# Altium footprint library ic_tqfp.PcbLib: 6 footprints
Each footprint in its own frame and in the unit in brackets; x right, y up, seen from the top. Pads: shape width x height; smd on the part's side, far side on the other; paste and mask are expansions set on the pad; w line width, h text height; cw(c..) or ccw(c..) is an arc to the next point about the centre after c.
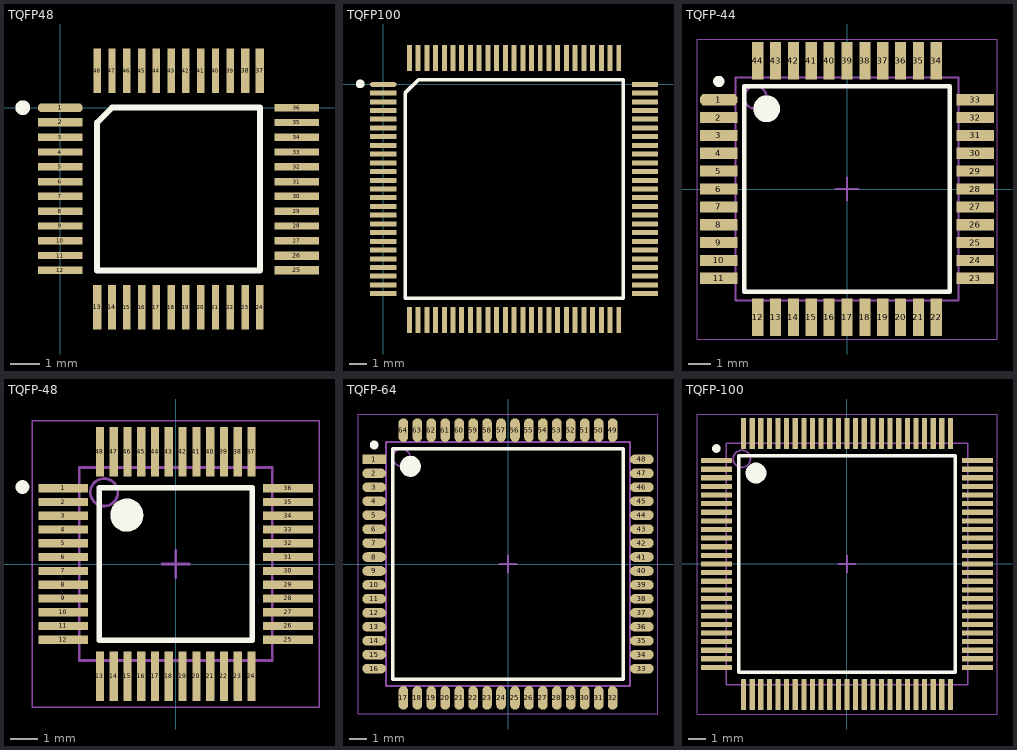
[diagram p0: the footprints below, top view; thin cyan lines are the x and y axes]

## TQFP48 [mm]
pads (48):
  oct 1.5x0.285 smd: 1(0,0)
  rect 1.5x0.285 smd: 2(0,-0.5) 25(8,-5.5) 26(8,-5)
  rect 1.5x0.25 smd: 3(0,-1) 4(0,-1.5) 5(0,-2) 6(0,-2.5) 7(0,-3) 8(0,-3.5) 9(0,-4) 10(0,-4.5) 11(0,-5) 12(0,-5.5) 27(8,-4.5) 28(8,-4) 29(8,-3.5) 30(8,-3) 31(8,-2.5) 32(8,-2) 33(8,-1.5) 34(8,-1) 35(8,-0.5) 36(8,0)
  rect 0.285x1.5 smd: 13(1.25,-6.75) 14(1.75,-6.75) 37(6.75,1.25) 38(6.25,1.25)
  rect 0.25x1.5 smd: 15(2.25,-6.75) 16(2.75,-6.75) 17(3.25,-6.75) 18(3.75,-6.75) 19(4.25,-6.75) 20(4.75,-6.75) 21(5.25,-6.75) 22(5.75,-6.75) 23(6.25,-6.75) 24(6.75,-6.75) 39(5.75,1.25) 40(5.25,1.25) 41(4.75,1.25) 42(4.25,1.25) 43(3.75,1.25) 44(3.25,1.25) 45(2.75,1.25) 46(2.25,1.25) 47(1.75,1.25) 48(1.25,1.25)
Top Overlay:
  circle w0.25: c-1.27,0 r0.125
  lines w0.2: 1.25,-5.5 6.75,-5.5 6.75,0 1.75,0 1.25,-0.5 1.25,-5.5
3D body "TQFP-48.STEP": height 1.4, standoff -0.06, extent -0.5,-7.25 8.5,1.75

## TQFP100 [mm] "AT32UC3A1512"
pads (100):
  oct 1.5x0.285 smd: 1(0,0)
  rect 1.5x0.285 smd: 2(0,-0.5) 3(0,-1) 4(0,-1.5) 5(0,-2) 6(0,-2.5) 7(0,-3) 8(0,-3.5) 9(0,-4) 10(0,-4.5) 11(0,-5) 12(0,-5.5) 13(0,-6) 14(0,-6.5) 15(0,-7) 16(0,-7.5) 17(0,-8) 18(0,-8.5) 19(0,-9) 20(0,-9.5) 21(0,-10) 22(0,-10.5) 23(0,-11) 24(0,-11.5) 25(0,-12) 51(15,-12) 52(15,-11.5) 53(15,-11) 54(15,-10.5) 55(15,-10) 56(15,-9.5) 57(15,-9) 58(15,-8.5) 59(15,-8) 60(15,-7.5) 61(15,-7) 62(15,-6.5) 63(15,-6) 64(15,-5.5) 65(15,-5) 66(15,-4.5) 67(15,-4) 68(15,-3.5) 69(15,-3) 70(15,-2.5) 71(15,-2) 72(15,-1.5) 73(15,-1) 74(15,-0.5) 75(15,0)
  rect 0.285x1.5 smd: 26(1.5,-13.5) 27(2,-13.5) 28(2.5,-13.5) 29(3,-13.5) 30(3.5,-13.5) 31(4,-13.5) 32(4.5,-13.5) 33(5,-13.5) 34(5.5,-13.5) 35(6,-13.5) 36(6.5,-13.5) 37(7,-13.5) 38(7.5,-13.5) 39(8,-13.5) 40(8.5,-13.5) 41(9,-13.5) 42(9.5,-13.5) 43(10,-13.5) 44(10.5,-13.5) 45(11,-13.5) 46(11.5,-13.5) 47(12,-13.5) 48(12.5,-13.5) 49(13,-13.5) 50(13.5,-13.5) 76(13.5,1.5) 77(13,1.5) 78(12.5,1.5) 79(12,1.5) 80(11.5,1.5) 81(11,1.5) 82(10.5,1.5) 83(10,1.5) 84(9.5,1.5) 85(9,1.5) 86(8.5,1.5) 87(8,1.5) 88(7.5,1.5) 89(7,1.5) 90(6.5,1.5) 91(6,1.5) 92(5.5,1.5) 93(5,1.5) 94(4.5,1.5) 95(4,1.5) 96(3.5,1.5) 97(3,1.5) 98(2.5,1.5) 99(2,1.5) 100(1.5,1.5)
Top Overlay:
  circle w0.25: c-1.321,0.025 r0.125
  lines w0.2: 1.25,-12.25 13.75,-12.25 13.75,0.25 2,0.25 1.25,-0.5 1.25,-12.25
3D body "TQFP100-1.STEP": height 1.61, standoff -0.01, extent -0.501,-14.002 15.499,1.998

## TQFP-44 [mm] "TQFP, 44-Leads, Body 10,00x10,00mm, Pitch 0,80mm, IPC Medium Density"
height 1.2
pads (44):
  oct 1.7x0.5 smd: 1(-5.75,4)
  rect 1.7x0.5 smd: 2(-5.75,3.2) 3(-5.75,2.4) 4(-5.75,1.6) 5(-5.75,0.8) 6(-5.75,0) 7(-5.75,-0.8) 8(-5.75,-1.6) 9(-5.75,-2.4) 10(-5.75,-3.2) 11(-5.75,-4) 23(5.75,-4) 24(5.75,-3.2) 25(5.75,-2.4) 26(5.75,-1.6) 27(5.75,-0.8) 28(5.75,0) 29(5.75,0.8) 30(5.75,1.6) 31(5.75,2.4) 32(5.75,3.2) 33(5.75,4)
  rect 0.5x1.7 smd: 12(-4,-5.75) 13(-3.2,-5.75) 14(-2.4,-5.75) 15(-1.6,-5.75) 16(-0.8,-5.75) 17(0,-5.75) 18(0.8,-5.75) 19(1.6,-5.75) 20(2.4,-5.75) 21(3.2,-5.75) 22(4,-5.75) 34(4,5.75) 35(3.2,5.75) 36(2.4,5.75) 37(1.6,5.75) 38(0.8,5.75) 39(0,5.75) 40(-0.8,5.75) 41(-1.6,5.75) 42(-2.4,5.75) 43(-3.2,5.75) 44(-4,5.75)
Top Overlay:
  circle w0.6: c-3.6,3.6 r0.3
  circle w0.25: c-5.75,4.825 r0.125
  lines w0.2: -4.6,-4.6 4.6,-4.6 4.6,4.6 -4.6,4.6 -4.6,-4.6
Mechanical 13:
  circle w0.1: c-4.1,4.1 r0.5
  lines w0.1: -5,-5 5,-5 5,5 -5,5 -5,-5
Mechanical 15:
  lines w0.05: -6.725,-6.725 6.725,-6.725 6.725,6.725 -6.725,6.725 -6.725,-6.725
  lines w0.1: -0.5,0 0.5,0 ; 0,-0.5 0,0.5
3D body "P-MQFP-44-2.step": height 2.25, standoff 0, extent -6.6,-6.6 6.6,6.6

## TQFP-48 [mm]
height 1.2
pads (48):
  rect 1.8x0.3 smd: 1(-4.075,2.75) 2(-4.075,2.25) 3(-4.075,1.75) 4(-4.075,1.25) 5(-4.075,0.75) 6(-4.075,0.25) 7(-4.075,-0.25) 8(-4.075,-0.75) 9(-4.075,-1.25) 10(-4.075,-1.75) 11(-4.075,-2.25) 12(-4.075,-2.75) 25(4.075,-2.75) 26(4.075,-2.25) 27(4.075,-1.75) 28(4.075,-1.25) 29(4.075,-0.75) 30(4.075,-0.25) 31(4.075,0.25) 32(4.075,0.75) 33(4.075,1.25) 34(4.075,1.75) 35(4.075,2.25) 36(4.075,2.75)
  rect 0.3x1.8 smd: 13(-2.75,-4.075) 14(-2.25,-4.075) 15(-1.75,-4.075) 16(-1.25,-4.075) 17(-0.75,-4.075) 18(-0.25,-4.075) 19(0.25,-4.075) 20(0.75,-4.075) 21(1.25,-4.075) 22(1.75,-4.075) 23(2.25,-4.075) 24(2.75,-4.075) 37(2.75,4.075) 38(2.25,4.075) 39(1.75,4.075) 40(1.25,4.075) 41(0.75,4.075) 42(0.25,4.075) 43(-0.25,4.075) 44(-0.75,4.075) 45(-1.25,4.075) 46(-1.75,4.075) 47(-2.25,4.075) 48(-2.75,4.075)
Top Overlay:
  circle w0.25: c-5.563,2.794 r0.125
  circle w0.6: c-1.775,1.775 r0.3
  lines w0.2: -2.775,-2.775 -2.775,2.775 2.775,2.775 2.775,-2.775 -2.775,-2.775
Mechanical 13:
  circle w0.1: c-2.6,2.6 r0.5
  lines w0.1: -3.5,-3.5 -3.5,3.5 3.5,3.5 3.5,-3.5 -3.5,-3.5
Mechanical 15:
  lines w0.05: -5.2,-5.2 -5.2,5.2 5.2,5.2 5.2,-5.2 -5.2,-5.2
  lines w0.1: -0.5,0 0.5,0 ; 0,-0.5 0,0.5
3D body "TQFP-48.STEP": height 1.43, standoff -0.03, extent -4.5,-4.5 4.5,4.5

## TQFP-64 [mm]
height 1.2
pads (64):
  rect 1.35x0.55 smd: 1(-7.675,6)
  oval 1.35x0.55 smd: 2(-7.675,5.2) 3(-7.675,4.4) 4(-7.675,3.6) 5(-7.675,2.8) 6(-7.675,2) 7(-7.675,1.2) 8(-7.675,0.4) 9(-7.675,-0.4) 10(-7.675,-1.2) 11(-7.675,-2) 12(-7.675,-2.8) 13(-7.675,-3.6) 14(-7.675,-4.4) 15(-7.675,-5.2) 16(-7.675,-6) 33(7.675,-6) 34(7.675,-5.2) 35(7.675,-4.4) 36(7.675,-3.6) 37(7.675,-2.8) 38(7.675,-2) 39(7.675,-1.2) 40(7.675,-0.4) 41(7.675,0.4) 42(7.675,1.2) 43(7.675,2) 44(7.675,2.8) 45(7.675,3.6) 46(7.675,4.4) 47(7.675,5.2) 48(7.675,6)
  oval 0.55x1.35 smd: 17(-6,-7.675) 18(-5.2,-7.675) 19(-4.4,-7.675) 20(-3.6,-7.675) 21(-2.8,-7.675) 22(-2,-7.675) 23(-1.2,-7.675) 24(-0.4,-7.675) 25(0.4,-7.675) 26(1.2,-7.675) 27(2,-7.675) 28(2.8,-7.675) 29(3.6,-7.675) 30(4.4,-7.675) 31(5.2,-7.675) 32(6,-7.675) 49(6,7.675) 50(5.2,7.675) 51(4.4,7.675) 52(3.6,7.675) 53(2.8,7.675) 54(2,7.675) 55(1.2,7.675) 56(0.4,7.675) 57(-0.4,7.675) 58(-1.2,7.675) 59(-2,7.675) 60(-2.8,7.675) 61(-3.6,7.675) 62(-4.4,7.675) 63(-5.2,7.675) 64(-6,7.675)
Top Overlay:
  circle w0.6: c-5.6,5.6 r0.3
  circle w0.25: c-7.675,6.825 r0.125
  lines w0.2: -6.6,-6.6 6.6,-6.6 6.6,6.6 -6.6,6.6 -6.6,-6.6
Mechanical 13:
  circle w0.1: c-6.1,6.1 r0.5
  lines w0.1: -7,-7 7,-7 7,7 -7,7 -7,-7
Mechanical 15:
  lines w0.05: -8.6,-8.6 8.6,-8.6 8.6,8.6 -8.6,8.6 -8.6,-8.6
  lines w0.1: -0.5,0 0.5,0 ; 0,-0.5 0,0.5
3D body "TQFP-64.STEP": height 1.49, standoff -0.01, extent -8,-8 8,8

## TQFP-100 [mm]
height 1.2
pads (100):
  rect 1.8x0.3 smd: 1(-7.575,6) 2(-7.575,5.5) 3(-7.575,5) 4(-7.575,4.5) 5(-7.575,4) 6(-7.575,3.5) 7(-7.575,3) 8(-7.575,2.5) 9(-7.575,2) 10(-7.575,1.5) 11(-7.575,1) 12(-7.575,0.5) 13(-7.575,0) 14(-7.575,-0.5) 15(-7.575,-1) 16(-7.575,-1.5) 17(-7.575,-2) 18(-7.575,-2.5) 19(-7.575,-3) 20(-7.575,-3.5) 21(-7.575,-4) 22(-7.575,-4.5) 23(-7.575,-5) 24(-7.575,-5.5) 25(-7.575,-6) 51(7.575,-6) 52(7.575,-5.5) 53(7.575,-5) 54(7.575,-4.5) 55(7.575,-4) 56(7.575,-3.5) 57(7.575,-3) 58(7.575,-2.5) 59(7.575,-2) 60(7.575,-1.5) 61(7.575,-1) 62(7.575,-0.5) 63(7.575,0) 64(7.575,0.5) 65(7.575,1) 66(7.575,1.5) 67(7.575,2) 68(7.575,2.5) 69(7.575,3) 70(7.575,3.5) 71(7.575,4) 72(7.575,4.5) 73(7.575,5) 74(7.575,5.5) 75(7.575,6)
  rect 0.3x1.8 smd: 26(-6,-7.575) 27(-5.5,-7.575) 28(-5,-7.575) 29(-4.5,-7.575) 30(-4,-7.575) 31(-3.5,-7.575) 32(-3,-7.575) 33(-2.5,-7.575) 34(-2,-7.575) 35(-1.5,-7.575) 36(-1,-7.575) 37(-0.5,-7.575) 38(0,-7.575) 39(0.5,-7.575) 40(1,-7.575) 41(1.5,-7.575) 42(2,-7.575) 43(2.5,-7.575) 44(3,-7.575) 45(3.5,-7.575) 46(4,-7.575) 47(4.5,-7.575) 48(5,-7.575) 49(5.5,-7.575) 50(6,-7.575) 76(6,7.575) 77(5.5,7.575) 78(5,7.575) 79(4.5,7.575) 80(4,7.575) 81(3.5,7.575) 82(3,7.575) 83(2.5,7.575) 84(2,7.575) 85(1.5,7.575) 86(1,7.575) 87(0.5,7.575) 88(0,7.575) 89(-0.5,7.575) 90(-1,7.575) 91(-1.5,7.575) 92(-2,7.575) 93(-2.5,7.575) 94(-3,7.575) 95(-3.5,7.575) 96(-4,7.575) 97(-4.5,7.575) 98(-5,7.575) 99(-5.5,7.575) 100(-6,7.575)
Top Overlay:
  circle w0.25: c-7.575,6.7 r0.125
  circle w0.6: c-5.275,5.275 r0.3
  lines w0.2: -6.275,-6.275 -6.275,6.275 6.275,6.275 6.275,-6.275 -6.275,-6.275
Mechanical 13:
  circle w0.1: c-6.1,6.1 r0.5
  lines w0.1: -7,-7 -7,7 7,7 7,-7 -7,-7
Mechanical 15:
  lines w0.05: -8.7,-8.7 -8.7,8.7 8.7,8.7 8.7,-8.7 -8.7,-8.7
  lines w0.1: -0.5,0 0.5,0 ; 0,-0.5 0,0.5
3D body "TQFP100-1.STEP": height 1.59, standoff -0.03, extent -8,-8 8,8